# EAGLE library part PHOENIX_1990067_1X8X2MM50_PTSA-0-5 (library df4iah_connector)
PCB terminal block - PTSA 0,5/8-2,5-Z - 1990067 PCB terminal block, nominal current: 2 A, nom. voltage: 250 V, pitch: 2.5 mm, number of positions: 8, connection method: Push-in spring connection, mounting: Wave soldering, conductor/PCB connection direction: 45 °
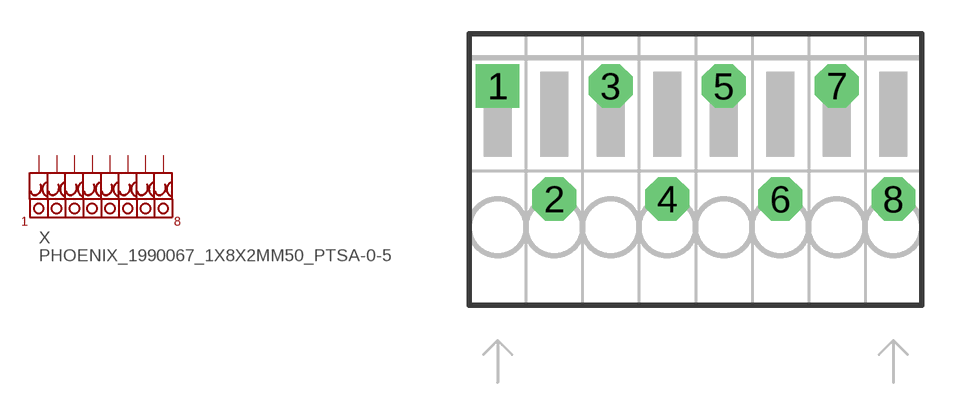
[diagram p30: symbol with the pads of PHOENIX_1990067_1X8X2MM50_PTSA-0-5; footprint PHOENIX_1990067_1X8X2MM50_PTSA-0-5]

Designator prefix X

## PHOENIX_1990067_1X8X2MM50_PTSA-0-5  [PHOENIX_1990067_1X8X2MM50_PTSA-0-5]
1  1  pas
2  2  pas
3  3  pas
4  4  pas
5  5  pas
6  6  pas
7  7  pas
8  8  pas

## Footprint PHOENIX_1990067_1X8X2MM50_PTSA-0-5 (pad centres in mm)
PCB terminal block - PTSA 0,5/8-2,5-Z - 1990067 PCB terminal block, nominal current: 2 A, nom. voltage: 250 V, pitch: 2.5 mm, number of positions: 8, connection method: Push-in spring connection, mounting: Wave soldering, conductor/PCB connection direction: 45 °
drill 1 pad 1.93 square: 1 -7.5,5
drill 1 pad 1.93 octagon: 2 -5,0; 3 -2.5,5; 4 0,0; 5 2.5,5; 6 5,0; 7 7.5,5; 8 10,0